# Altium schematic symbol library 0603YC105KAT2A.SchLib: 1 symbol
Pins are listed as number, name and electrical type; pins without a type are passive.

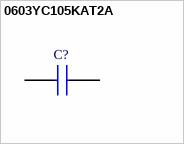
[diagram p0: symbol 0603YC105KAT2A]

## 0603YC105KAT2A
designator C?
AVX - 0603YC105KAT2A - CAP, MLCC, X7R, 1UF, 16V, 0603; Geometry.Height: 0.94mm; Mouser Part Number: 581-0603YC105KAT2A; Mouser Price/Stock: https://www.mouser.co.uk/ProductDetail/AVX/0603YC105KAT2A?qs=oZHZyJ9sPsF0nYEZ1SOhJA%3D%3D; Manufacturer_Name: AVX; Manufacturer_Part_Number: 0603YC105KAT2A; Datasheet Link: https://spicat.kyocera-avx.com/product/mlcc/chartview/0603YC105KAT2A#dim
footprint CAPC1608X94N
pins: 1, 2